# EAGLE library part DSPIC30F6014A-30I/PT (library Microchip_By_element14_Batch_1)
16-bit Digital Signal Controllers
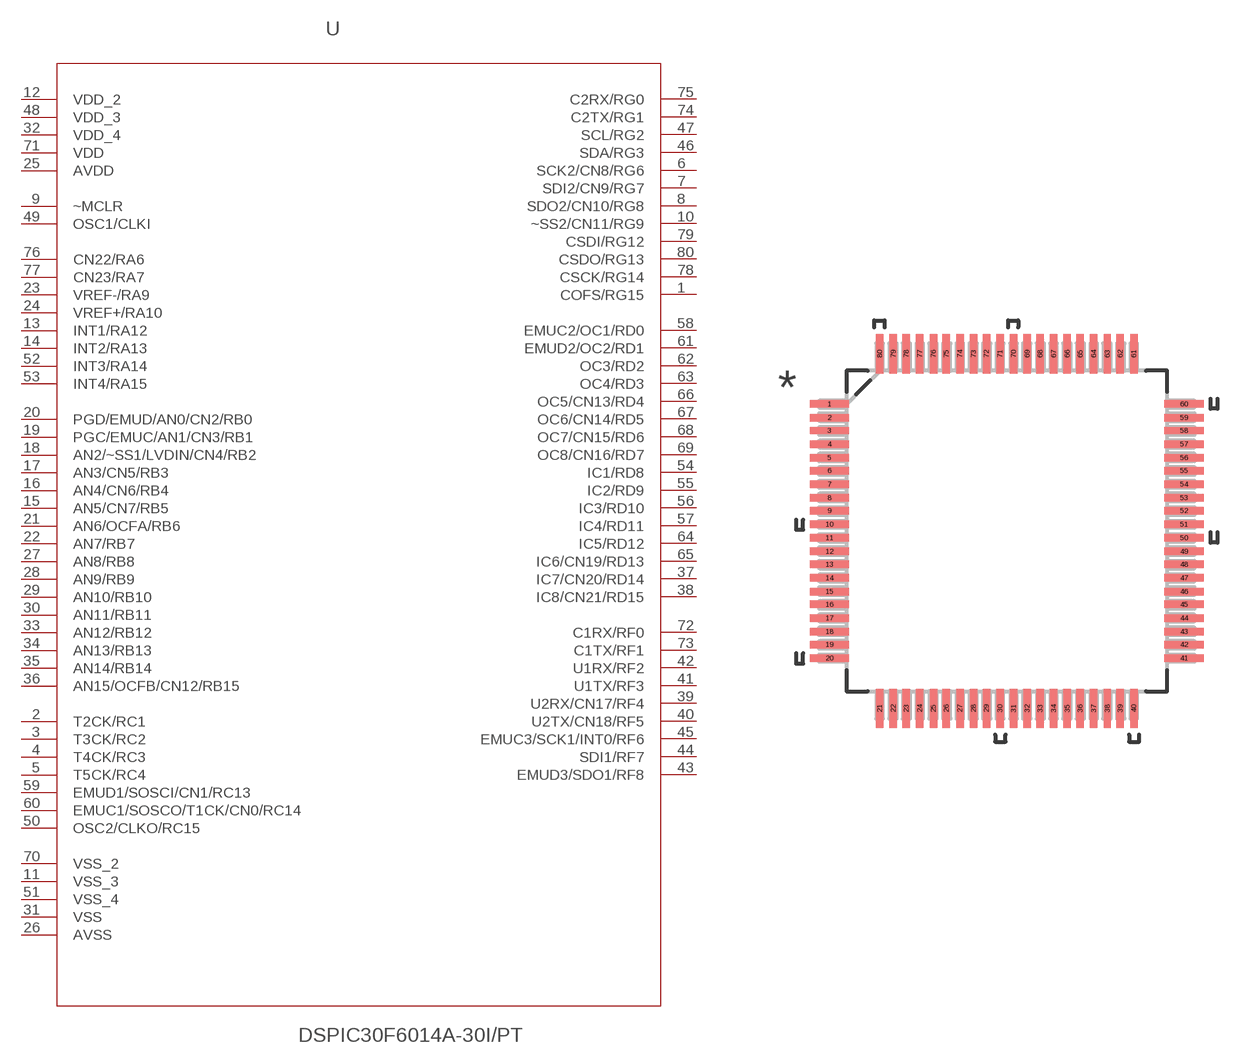
[diagram p328: symbol with the pads of QFP50P1200X1200X120-80N; footprint QFP50P1200X1200X120-80N]

Designator prefix -

## DSPIC30F6014A-30I/PT (MPN: DSPIC30F6014A-30I/PT; OC_FARNELL: 1332036; OC_NEWARK: 71J3818; PACKAGE: TQFP-80; SUPPLIER: Microchip)  [QFP50P1200X1200X120-80N]
1  COFS/RG15
2  T2CK/RC1
3  T3CK/RC2
4  T4CK/RC3
5  T5CK/RC4
6  SCK2/CN8/RG6
7  SDI2/CN9/RG7
8  SDO2/CN10/RG8
9  ~MCLR  in
10  ~SS2/CN11/RG9
11  VSS_3  pwr
12  VDD_2  pwr
13  INT1/RA12
14  INT2/RA13
15  AN5/CN7/RB5
16  AN4/CN6/RB4
17  AN3/CN5/RB3
18  AN2/~SS1/LVDIN/CN4/RB2
19  PGC/EMUC/AN1/CN3/RB1
20  PGD/EMUD/AN0/CN2/RB0
21  AN6/OCFA/RB6
22  AN7/RB7
23  VREF-/RA9
24  VREF+/RA10
25  AVDD  pwr
26  AVSS  pwr
27  AN8/RB8
28  AN9/RB9
29  AN10/RB10
30  AN11/RB11
31  VSS  pwr
32  VDD_4  pwr
33  AN12/RB12
34  AN13/RB13
35  AN14/RB14
36  AN15/OCFB/CN12/RB15
37  IC7/CN20/RD14
38  IC8/CN21/RD15
39  U2RX/CN17/RF4
40  U2TX/CN18/RF5
41  U1TX/RF3
42  U1RX/RF2
43  EMUD3/SDO1/RF8
44  SDI1/RF7
45  EMUC3/SCK1/INT0/RF6
46  SDA/RG3
47  SCL/RG2
48  VDD_3  pwr
49  OSC1/CLKI
50  OSC2/CLKO/RC15
51  VSS_4  pwr
52  INT3/RA14
53  INT4/RA15
54  IC1/RD8
55  IC2/RD9
56  IC3/RD10
57  IC4/RD11
58  EMUC2/OC1/RD0
59  EMUD1/SOSCI/CN1/RC13
60  EMUC1/SOSCO/T1CK/CN0/RC14
61  EMUD2/OC2/RD1
62  OC3/RD2
63  OC4/RD3
64  IC5/RD12
65  IC6/CN19/RD13
66  OC5/CN13/RD4
67  OC6/CN14/RD5
68  OC7/CN15/RD6
69  OC8/CN16/RD7
70  VSS_2  pwr
71  VDD  pwr
72  C1RX/RF0
73  C1TX/RF1
74  C2TX/RG1
75  C2RX/RG0
76  CN22/RA6
77  CN23/RA7
78  CSCK/RG14
79  CSDI/RG12
80  CSDO/RG13

## Footprint QFP50P1200X1200X120-80N (pad centres in mm)
smd 1.473 x 0.279: 1 -6.629,4.75; 2 -6.629,4.242; 3 -6.629,3.759; 4 -6.629,3.251; 5 -6.629,2.743; 6 -6.629,2.261; 7 -6.629,1.753; 8 -6.629,1.245; 9 -6.629,0.762; 10 -6.629,0.254; 11 -6.629,-0.254; 12 -6.629,-0.762; 13 -6.629,-1.245; 14 -6.629,-1.753; 15 -6.629,-2.261; 16 -6.629,-2.743; 17 -6.629,-3.251; 18 -6.629,-3.759; 19 -6.629,-4.242; 20 -6.629,-4.75; 41 6.629,-4.75; 42 6.629,-4.242; 43 6.629,-3.759; 44 6.629,-3.251; 45 6.629,-2.743; 46 6.629,-2.261; 47 6.629,-1.753; 48 6.629,-1.245; 49 6.629,-0.762; 50 6.629,-0.254; 51 6.629,0.254; 52 6.629,0.762; 53 6.629,1.245; 54 6.629,1.753; 55 6.629,2.261; 56 6.629,2.743; 57 6.629,3.251; 58 6.629,3.759; 59 6.629,4.242; 60 6.629,4.75
smd 0.279 x 1.473: 21 -4.75,-6.629; 22 -4.242,-6.629; 23 -3.759,-6.629; 24 -3.251,-6.629; 25 -2.743,-6.629; 26 -2.261,-6.629; 27 -1.753,-6.629; 28 -1.245,-6.629; 29 -0.762,-6.629; 30 -0.254,-6.629; 31 0.254,-6.629; 32 0.762,-6.629; 33 1.245,-6.629; 34 1.753,-6.629; 35 2.261,-6.629; 36 2.743,-6.629; 37 3.251,-6.629; 38 3.759,-6.629; 39 4.242,-6.629; 40 4.75,-6.629; 61 4.75,6.629; 62 4.242,6.629; 63 3.759,6.629; 64 3.251,6.629; 65 2.743,6.629; 66 2.261,6.629; 67 1.753,6.629; 68 1.245,6.629; 69 0.762,6.629; 70 0.254,6.629; 71 -0.254,6.629; 72 -0.762,6.629; 73 -1.245,6.629; 74 -1.753,6.629; 75 -2.261,6.629; 76 -2.743,6.629; 77 -3.251,6.629; 78 -3.759,6.629; 79 -4.242,6.629; 80 -4.75,6.629